# Altium schematic symbol library MOSFET.SchLib: 4 symbols
Pins are listed as number, name and electrical type; pins without a type are passive.

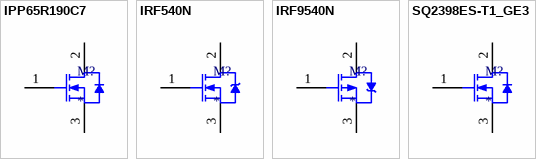
[diagram p0: symbols IPP65R190C7 to SQ2398ES-T1_GE3]

## IPP65R190C7
designator M?
MOSFET N-CH, 650V, 13A, 190mOhm, TO220AB; Drain-to-Source On-Resistance: 190mΩ; FET Type: N-Channel; Gate-to-Source Voltage (VGS): ±20V; Gate Threshold Voltage (Vth): 3-4V; Power Dissipation: 72W; Supply 1 Name: Digikey; Supply 1 SN: 2156-IPP65R190C7-ND; Supply 2 Name: Mouser; Supply 2 SN: 726-IPP65R190C7; Total Gate Charge: 23nC; Supply 3 Name: thegioiic; Continuous Drain Current: 13A; Device Package: TO-220AB; Drain to Source Voltage (Vdss): 650V; Supply 1 URL: https://www.digikey.com/en/products/detail/rochester-electronics-llc/IPP65R190C7/13437818; Supply 2 URL: https://www.mouser.vn/ProductDetail/Infineon-Technologies/IPP65R190C7?qs=61g%252BPyeGH22xCcDq3bqxig%3D%3D; Supply 3 SN: *; Supply 3 URL: *
footprint TO-220AB
pins: 1 G, 2 D, 3 S

## IRF540N
designator M?
MOSFET N-CH, 100V, 33A, 44mOhm, TO220AB; Gate Threshold Voltage (Vth): 2-4V; Gate-to-Source Voltage (VGS): ±20V; Drain-to-Source On-Resistance: 44mΩ; Total Gate Charge: 71nC; Power Dissipation: 130W; Supply 1 Name: Digikey; Supply 1 SN: IRF540NPBF-ND; Supply 2 Name: Mouser; Supply 2 SN: 942-IRF540NPBF; FET Type: N-Channel; Supply 3 Name: thegioiic; Drain to Source Voltage (Vdss): 100V; Continuous Drain Current: 33A; Device Package: TO-220AB; Supply 1 URL: https://www.digikey.com/en/products/detail/infineon-technologies/IRF540NPBF/811869; Supply 2 URL: https://www.mouser.vn/ProductDetail/Infineon-Technologies/IRF540NPBF?qs=9%252BKlkBgLFf36us%252Bg5kwffA%3D%3D; Supply 3 URL: https://www.thegioiic.com/irf540npbf-mosfet-kenh-n-100v-33a-to-220ab; Supply 3 SN: *
footprint TO-220AB
pins: 1 G, 2 D, 3 S

## IRF9540N
designator M?
MOSFET P-CH, 100V, 23A, 117mOhm, TO220AB; Drain to Source Voltage (Vdss): -100V; Gate-to-Source Voltage (VGS): ±20V; Drain-to-Source On-Resistance: 0.117Ω; Continuous Drain Current: -23A; Total Gate Charge: 97nC; Power Dissipation: 140W; FET Type: P-Channel; Supply 1 Name: Digikey; Supply 1 SN: IRF9540NPBF-ND; Supply 2 Name: Mouser; Supply 2 SN: 942-IRF9540NPBF; Supply 3 Name: thegioiic; Gate Threshold Voltage (Vth): *; Device Package: TO-220AB; Supply 1 URL: https://www.digikey.com/en/products/detail/infineon-technologies/IRF9540NPBF/812088; Supply 2 URL: https://www.mouser.vn/ProductDetail/Infineon-Technologies/IRF9540NPBF?qs=9%252BKlkBgLFf0vnuA8mxUPtw%3D%3D; Supply 3 URL: https://www.thegioiic.com/irf9540npbf-mosfet-kenh-p-100v-19a-to-220ab; Supply 3 SN: *
footprint TO-220AB
pins: 1 G, 2 D, 3 S

## SQ2398ES-T1_GE3
designator M?
MOSFET N-CH, 100V, 1.6A, 0.3Ω, / SOT23-3; FET Type: N-Channel; Gate-to-Source Voltage (VGS): ±20V; Gate Threshold Voltage (Vth): 2.5-3.5V; Power Dissipation: 2W; Supply 1 Name: Digikey; Supply 1 SN: SQ2398ES-T1_GE3TR-ND; Supply 2 Name: Mouser; Supply 2 SN: 78-SQ2398ES-T1_GE3; Total Gate Charge: 3.4nC; Supply 3 Name: thegioiic; Drain-to-Source On-Resistance: 0.3Ω; Continuous Drain Current: 1.6A; Device Package: SOT-23; Drain to Source Voltage (Vdss): 100V; Supply 1 URL: https://www.digikey.com/en/products/detail/vishay-siliconix/SQ2398ES-T1-GE3/7566741?s=N4IgTCBcDaIMoEUwGYCcAOAonAtAFQEYB9AcU2RAF0BfIA; Supply 2 URL: https://www.mouser.vn/ProductDetail/Vishay-Semiconductors/SQ2398ES-T1_GE3?qs=Vcr9%2FL0R50iBTttjVcQTDw%3D%3D; Supply 3 SN: *; Supply 3 URL: *
footprint SOT23
pins: 1 G, 2 D, 3 S